# EAGLE library part PICO80P1 (library JLB6_Connec)
Embase picocpu (carte base) 80 points P1
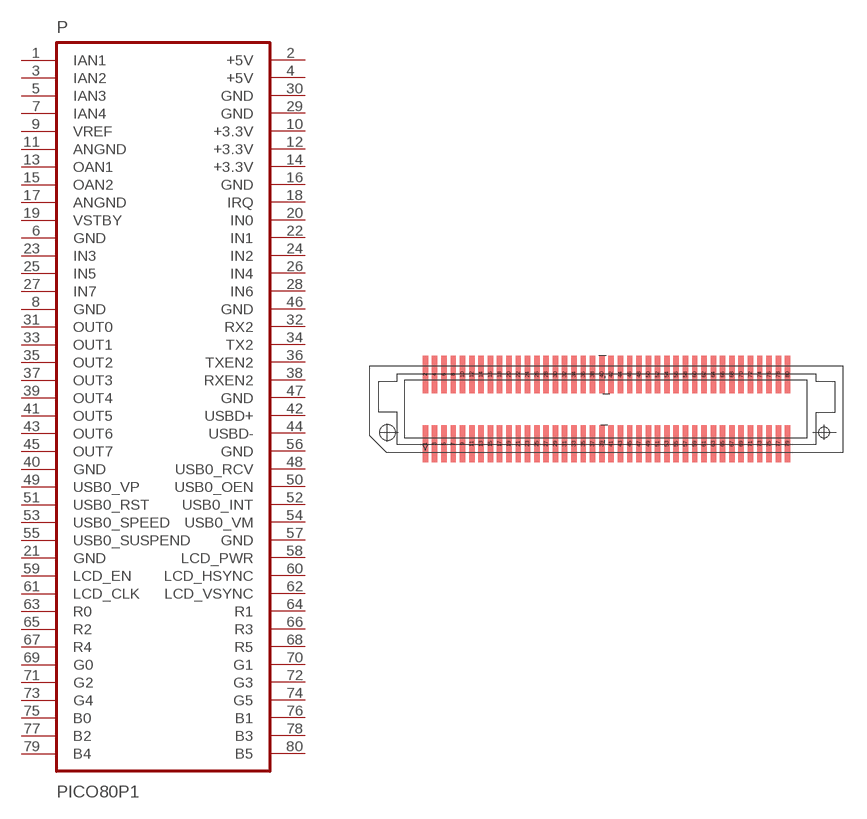
[diagram p17: symbol with the pads of FX8C-80P; footprint FX8C-80P]

Designator prefix P

## PICO80P1  [FX8C-80P]
1  IAN1
2  +5V
3  IAN2
4  +5V
5  IAN3
6  GND
7  IAN4
8  GND
9  VREF
10  +3.3V
11  ANGND
12  +3.3V
13  OAN1
14  +3.3V
15  OAN2
16  GND
17  ANGND
18  IRQ
19  VSTBY
20  IN0
21  GND
22  IN1
23  IN3
24  IN2
25  IN5
26  IN4
27  IN7
28  IN6
29  GND
30  GND
31  OUT0
32  RX2
33  OUT1
34  TX2
35  OUT2
36  TXEN2
37  OUT3
38  RXEN2
39  OUT4
40  GND
41  OUT5
42  USBD+
43  OUT6
44  USBD-
45  OUT7
46  GND
47  GND
48  USB0_RCV
49  USB0_VP
50  USB0_OEN
51  USB0_RST
52  USB0_INT
53  USB0_SPEED
54  USB0_VM
55  USB0_SUSPEND
56  GND
57  GND
58  LCD_PWR
59  LCD_EN
60  LCD_HSYNC
61  LCD_CLK
62  LCD_VSYNC
63  R0
64  R1
65  R2
66  R3
67  R4
68  R5
69  G0
70  G1
71  G2
72  G3
73  G4
74  G5
75  B0
76  B1
77  B2
78  B3
79  B4
80  B5

## Footprint FX8C-80P (pad centres in mm)
smd 0.35 x 2.4: 1 -11.7,-2.238; 2 -11.7,2.238; 3 -11.1,-2.238; 4 -11.1,2.238; 5 -10.5,-2.238; 6 -10.5,2.238; 7 -9.9,-2.238; 8 -9.9,2.238; 9 -9.3,-2.238; 10 -9.3,2.238; 11 -8.7,-2.238; 12 -8.7,2.238; 13 -8.1,-2.238; 14 -8.1,2.238; 15 -7.5,-2.238; 16 -7.5,2.238; 17 -6.9,-2.238; 18 -6.9,2.238; 19 -6.3,-2.238; 20 -6.3,2.238; 21 -5.7,-2.238; 22 -5.7,2.238; 23 -5.1,-2.238; 24 -5.1,2.238; 25 -4.5,-2.238; 26 -4.5,2.238; 27 -3.9,-2.238; 28 -3.9,2.238; 29 -3.3,-2.238; 30 -3.3,2.238; 31 -2.7,-2.238; 32 -2.7,2.238; 33 -2.1,-2.238; 34 -2.1,2.238; 35 -1.5,-2.238; 36 -1.5,2.238; 37 -0.9,-2.238; 38 -0.9,2.238; 39 -0.3,-2.238; 40 -0.3,2.238; 41 0.3,-2.238; 42 0.3,2.238; 43 0.9,-2.238; 44 0.9,2.238; 45 1.5,-2.238; 46 1.5,2.238; 47 2.1,-2.238; 48 2.1,2.238; 49 2.7,-2.238; 50 2.7,2.238; 51 3.3,-2.238; 52 3.3,2.238; 53 3.9,-2.238; 54 3.9,2.238; 55 4.5,-2.238; 56 4.5,2.238; 57 5.1,-2.238; 58 5.1,2.238; 59 5.7,-2.238; 60 5.7,2.238; 61 6.3,-2.238; 62 6.3,2.238; 63 6.9,-2.238; 64 6.9,2.238; 65 7.5,-2.238; 66 7.5,2.238; 67 8.1,-2.238; 68 8.1,2.238; 69 8.7,-2.238; 70 8.7,2.238; 71 9.3,-2.238; 72 9.3,2.238; 73 9.9,-2.238; 74 9.9,2.238; 75 10.5,-2.238; 76 10.5,2.238; 77 11.1,-2.238; 78 11.1,2.238; 79 11.7,-2.238; 80 11.7,2.238
hole 0.991 at -14.147,-1.499
hole 0.686 at 14.047,-1.499